# Altium footprint library MicroUSB.PcbLib: 1 footprints
Each footprint in its own frame and in the unit in brackets; x right, y up, seen from the top. Pads: shape width x height; smd on the part's side, far side on the other; paste and mask are expansions set on the pad; w line width, h text height; cw(c..) or ccw(c..) is an arc to the next point about the centre after c.
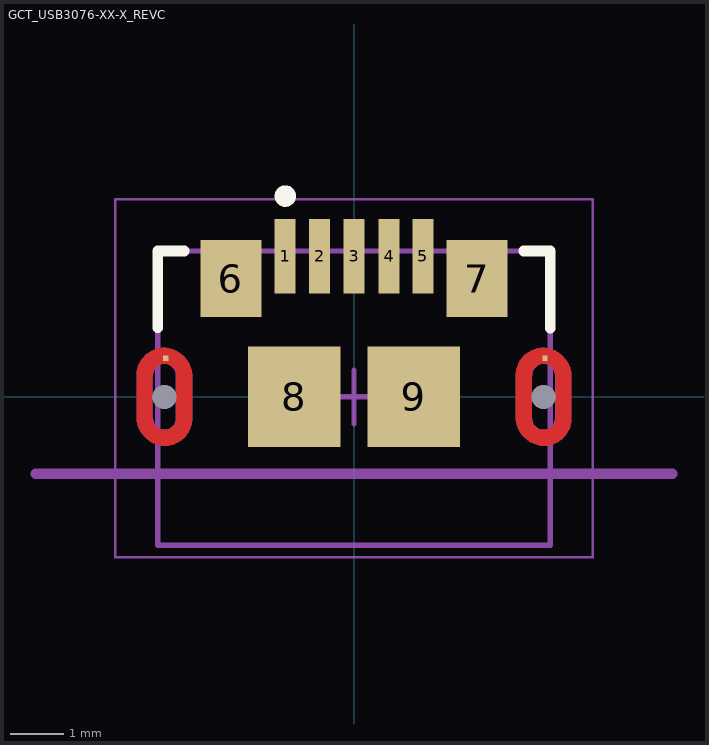
[diagram p0: the footprint, top view; thin cyan lines are the x and y axes]

## GCT_USB3076-XX-X_REVC [mm]
pads (13):
  rect 0.4x1.4 smd: 1(-1.3,2.65) 2(-0.65,2.65) 3(0,2.65) 4(0.66,2.65) 5(1.3,2.65)
  rect 0.1x0.1 smd paste-1 mask+0: 6(-3.549,0.73) 7(3.601,0.73)
  rect 1.15x1.45 smd: 6(-2.32,2.23) 7(2.32,2.23)
  rect 1.75x1.9 smd: 8(-1.125,0) 9(1.125,0)
  round 0.45 hole 0.45 square unplated: ""(-3.575,0) ""(3.575,0)
Top Layer:
  region: 4.1,-0.4 4.099,-0.427 4.097,-0.455 4.094,-0.482 4.089,-0.509 4.082,-0.536 4.074,-0.562 4.065,-0.588 4.055,-0.614 4.043,-0.638 4.03,-0.663 4.015,-0.686 4,-0.709 3.983,-0.73 3.965,-0.751 3.946,-0.771 3.926,-0.79 3.905,-0.808 3.884,-0.825 3.861,-0.84 3.838,-0.855 3.813,-0.868 3.789,-0.88 3.763,-0.89 3.737,-0.899 3.711,-0.907 3.684,-0.914 3.657,-0.919 3.63,-0.922 3.602,-0.924 3.575,-0.925 3.542,-0.923 3.514,-0.919 3.486,-0.914 3.458,-0.907 3.43,-0.899 3.403,-0.889 3.376,-0.878 3.35,-0.866 3.325,-0.852 3.3,-0.837 3.276,-0.82 3.254,-0.803 3.232,-0.784 3.211,-0.764 3.191,-0.743 3.172,-0.721 3.155,-0.699 3.138,-0.675 3.123,-0.65 3.109,-0.625 3.097,-0.599 3.086,-0.572 3.076,-0.545 3.068,-0.517 3.061,-0.489 3.056,-0.461 3.052,-0.433 3.05,-0.404 3.049,-0.375 3.05,-0.35 3.05,0 3.35,0 3.35,-0.4 3.35,-0.412 3.351,-0.424 3.353,-0.435 3.355,-0.447 3.358,-0.458 3.361,-0.47 3.365,-0.481 3.369,-0.492 3.375,-0.502 3.38,-0.513 3.386,-0.523 3.393,-0.532 3.4,-0.542 3.408,-0.551 3.416,-0.559 3.424,-0.567 3.433,-0.575 3.443,-0.582 3.452,-0.589 3.463,-0.595 3.473,-0.6 3.483,-0.606 3.494,-0.61 3.505,-0.614 3.517,-0.617 3.528,-0.62 3.54,-0.622 3.551,-0.624 3.563,-0.625 3.575,-0.625 3.587,-0.625 3.599,-0.624 3.61,-0.622 3.622,-0.62 3.633,-0.617 3.645,-0.614 3.656,-0.61 3.667,-0.606 3.677,-0.6 3.688,-0.595 3.698,-0.589 3.707,-0.582 3.717,-0.575 3.726,-0.567 3.734,-0.559 3.742,-0.551 3.75,-0.542 3.757,-0.532 3.764,-0.523 3.77,-0.513 3.775,-0.502 3.781,-0.492 3.785,-0.481 3.789,-0.47 3.792,-0.458 3.795,-0.447 3.797,-0.435 3.799,-0.424 3.8,-0.412 3.8,-0.4 3.8,0 4.1,0
  region: 3.608,0.923 3.636,0.919 3.664,0.914 3.692,0.907 3.72,0.899 3.747,0.889 3.774,0.878 3.8,0.866 3.825,0.852 3.85,0.837 3.874,0.82 3.896,0.803 3.918,0.784 3.939,0.764 3.959,0.743 3.978,0.721 3.995,0.699 4.012,0.675 4.027,0.65 4.041,0.625 4.053,0.599 4.064,0.572 4.074,0.545 4.082,0.517 4.089,0.489 4.094,0.461 4.098,0.433 4.1,0.404 4.101,0.375 4.1,0.35 4.1,0 3.8,0 3.8,0.4 3.8,0.412 3.799,0.424 3.797,0.435 3.795,0.447 3.792,0.458 3.789,0.47 3.785,0.481 3.781,0.492 3.775,0.502 3.77,0.513 3.764,0.523 3.757,0.532 3.75,0.542 3.742,0.551 3.734,0.559 3.726,0.567 3.717,0.575 3.707,0.582 3.698,0.589 3.688,0.595 3.677,0.6 3.667,0.606 3.656,0.61 3.645,0.614 3.633,0.617 3.622,0.62 3.61,0.622 3.599,0.624 3.587,0.625 3.575,0.625 3.563,0.625 3.551,0.624 3.54,0.622 3.528,0.62 3.517,0.617 3.505,0.614 3.494,0.61 3.483,0.606 3.473,0.6 3.463,0.595 3.452,0.589 3.443,0.582 3.433,0.575 3.424,0.567 3.416,0.559 3.408,0.551 3.4,0.542 3.393,0.532 3.386,0.523 3.38,0.513 3.375,0.502 3.369,0.492 3.365,0.481 3.361,0.47 3.358,0.458 3.355,0.447 3.353,0.435 3.351,0.424 3.35,0.412 3.35,0.4 3.35,0 3.05,0 3.05,0.4 3.051,0.427 3.053,0.455 3.056,0.482 3.061,0.509 3.068,0.536 3.076,0.562 3.085,0.588 3.095,0.614 3.107,0.638 3.12,0.663 3.135,0.686 3.15,0.709 3.167,0.73 3.185,0.751 3.204,0.771 3.224,0.79 3.245,0.808 3.266,0.825 3.289,0.84 3.313,0.855 3.337,0.868 3.361,0.88 3.387,0.89 3.413,0.899 3.439,0.907 3.466,0.914 3.493,0.919 3.52,0.922 3.548,0.924 3.575,0.925
  region: -3.05,-0.4 -3.051,-0.427 -3.053,-0.455 -3.056,-0.482 -3.061,-0.509 -3.068,-0.536 -3.076,-0.562 -3.085,-0.588 -3.095,-0.614 -3.107,-0.638 -3.12,-0.663 -3.135,-0.686 -3.15,-0.709 -3.167,-0.73 -3.185,-0.751 -3.204,-0.771 -3.224,-0.79 -3.245,-0.808 -3.266,-0.825 -3.289,-0.84 -3.313,-0.855 -3.337,-0.868 -3.361,-0.88 -3.387,-0.89 -3.413,-0.899 -3.439,-0.907 -3.466,-0.914 -3.493,-0.919 -3.52,-0.922 -3.548,-0.924 -3.575,-0.925 -3.608,-0.923 -3.636,-0.919 -3.664,-0.914 -3.692,-0.907 -3.72,-0.899 -3.747,-0.889 -3.774,-0.878 -3.8,-0.866 -3.825,-0.852 -3.85,-0.837 -3.874,-0.82 -3.896,-0.803 -3.918,-0.784 -3.939,-0.764 -3.959,-0.743 -3.978,-0.721 -3.995,-0.699 -4.012,-0.675 -4.027,-0.65 -4.041,-0.625 -4.053,-0.599 -4.064,-0.572 -4.074,-0.545 -4.082,-0.517 -4.089,-0.489 -4.094,-0.461 -4.098,-0.433 -4.1,-0.404 -4.101,-0.375 -4.1,-0.35 -4.1,0 -3.8,0 -3.8,-0.4 -3.8,-0.412 -3.799,-0.424 -3.797,-0.435 -3.795,-0.447 -3.792,-0.458 -3.789,-0.47 -3.785,-0.481 -3.781,-0.492 -3.775,-0.502 -3.77,-0.513 -3.764,-0.523 -3.757,-0.532 -3.75,-0.542 -3.742,-0.551 -3.734,-0.559 -3.726,-0.567 -3.717,-0.575 -3.707,-0.582 -3.698,-0.589 -3.688,-0.595 -3.677,-0.6 -3.667,-0.606 -3.656,-0.61 -3.645,-0.614 -3.633,-0.617 -3.622,-0.62 -3.61,-0.622 -3.599,-0.624 -3.587,-0.625 -3.575,-0.625 -3.563,-0.625 -3.551,-0.624 -3.54,-0.622 -3.528,-0.62 -3.517,-0.617 -3.505,-0.614 -3.494,-0.61 -3.483,-0.606 -3.473,-0.6 -3.463,-0.595 -3.452,-0.589 -3.443,-0.582 -3.433,-0.575 -3.424,-0.567 -3.416,-0.559 -3.408,-0.551 -3.4,-0.542 -3.393,-0.532 -3.386,-0.523 -3.38,-0.513 -3.375,-0.502 -3.369,-0.492 -3.365,-0.481 -3.361,-0.47 -3.358,-0.458 -3.355,-0.447 -3.353,-0.435 -3.351,-0.424 -3.35,-0.412 -3.35,-0.4 -3.35,0 -3.05,0
  region: -3.542,0.923 -3.514,0.919 -3.486,0.914 -3.458,0.907 -3.43,0.899 -3.403,0.889 -3.376,0.878 -3.35,0.866 -3.325,0.852 -3.3,0.837 -3.276,0.82 -3.254,0.803 -3.232,0.784 -3.211,0.764 -3.191,0.743 -3.172,0.721 -3.155,0.699 -3.138,0.675 -3.123,0.65 -3.109,0.625 -3.097,0.599 -3.086,0.572 -3.076,0.545 -3.068,0.517 -3.061,0.489 -3.056,0.461 -3.052,0.433 -3.05,0.404 -3.049,0.375 -3.05,0.35 -3.05,0 -3.35,0 -3.35,0.4 -3.35,0.412 -3.351,0.424 -3.353,0.435 -3.355,0.447 -3.358,0.458 -3.361,0.47 -3.365,0.481 -3.369,0.492 -3.375,0.502 -3.38,0.513 -3.386,0.523 -3.393,0.532 -3.4,0.542 -3.408,0.551 -3.416,0.559 -3.424,0.567 -3.433,0.575 -3.443,0.582 -3.452,0.589 -3.463,0.595 -3.473,0.6 -3.483,0.606 -3.494,0.61 -3.505,0.614 -3.517,0.617 -3.528,0.62 -3.54,0.622 -3.551,0.624 -3.563,0.625 -3.575,0.625 -3.587,0.625 -3.599,0.624 -3.61,0.622 -3.622,0.62 -3.633,0.617 -3.645,0.614 -3.656,0.61 -3.667,0.606 -3.677,0.6 -3.688,0.595 -3.698,0.589 -3.707,0.582 -3.717,0.575 -3.726,0.567 -3.734,0.559 -3.742,0.551 -3.75,0.542 -3.757,0.532 -3.764,0.523 -3.77,0.513 -3.775,0.502 -3.781,0.492 -3.785,0.481 -3.789,0.47 -3.792,0.458 -3.795,0.447 -3.797,0.435 -3.799,0.424 -3.8,0.412 -3.8,0.4 -3.8,0 -4.1,0 -4.1,0.4 -4.099,0.427 -4.097,0.455 -4.094,0.482 -4.089,0.509 -4.082,0.536 -4.074,0.562 -4.065,0.588 -4.055,0.614 -4.043,0.638 -4.03,0.663 -4.015,0.686 -4,0.709 -3.983,0.73 -3.965,0.751 -3.946,0.771 -3.926,0.79 -3.905,0.808 -3.884,0.825 -3.861,0.84 -3.838,0.855 -3.813,0.868 -3.789,0.88 -3.763,0.89 -3.737,0.899 -3.711,0.907 -3.684,0.914 -3.657,0.919 -3.63,0.922 -3.602,0.924 -3.575,0.925
Bottom Layer:
  region: 4.1,-0.4 4.099,-0.427 4.097,-0.455 4.094,-0.482 4.089,-0.509 4.082,-0.536 4.074,-0.562 4.065,-0.588 4.055,-0.614 4.043,-0.638 4.03,-0.663 4.015,-0.686 4,-0.709 3.983,-0.73 3.965,-0.751 3.946,-0.771 3.926,-0.79 3.905,-0.808 3.884,-0.825 3.861,-0.84 3.838,-0.855 3.813,-0.868 3.789,-0.88 3.763,-0.89 3.737,-0.899 3.711,-0.907 3.684,-0.914 3.657,-0.919 3.63,-0.922 3.602,-0.924 3.575,-0.925 3.542,-0.923 3.514,-0.919 3.486,-0.914 3.458,-0.907 3.43,-0.899 3.403,-0.889 3.376,-0.878 3.35,-0.866 3.325,-0.852 3.3,-0.837 3.276,-0.82 3.254,-0.803 3.232,-0.784 3.211,-0.764 3.191,-0.743 3.172,-0.721 3.155,-0.699 3.138,-0.675 3.123,-0.65 3.109,-0.625 3.097,-0.599 3.086,-0.572 3.076,-0.545 3.068,-0.517 3.061,-0.489 3.056,-0.461 3.052,-0.433 3.05,-0.404 3.049,-0.375 3.05,-0.35 3.05,0 3.35,0 3.35,-0.4 3.35,-0.412 3.351,-0.424 3.353,-0.435 3.355,-0.447 3.358,-0.458 3.361,-0.47 3.365,-0.481 3.369,-0.492 3.375,-0.502 3.38,-0.513 3.386,-0.523 3.393,-0.532 3.4,-0.542 3.408,-0.551 3.416,-0.559 3.424,-0.567 3.433,-0.575 3.443,-0.582 3.452,-0.589 3.463,-0.595 3.473,-0.6 3.483,-0.606 3.494,-0.61 3.505,-0.614 3.517,-0.617 3.528,-0.62 3.54,-0.622 3.551,-0.624 3.563,-0.625 3.575,-0.625 3.587,-0.625 3.599,-0.624 3.61,-0.622 3.622,-0.62 3.633,-0.617 3.645,-0.614 3.656,-0.61 3.667,-0.606 3.677,-0.6 3.688,-0.595 3.698,-0.589 3.707,-0.582 3.717,-0.575 3.726,-0.567 3.734,-0.559 3.742,-0.551 3.75,-0.542 3.757,-0.532 3.764,-0.523 3.77,-0.513 3.775,-0.502 3.781,-0.492 3.785,-0.481 3.789,-0.47 3.792,-0.458 3.795,-0.447 3.797,-0.435 3.799,-0.424 3.8,-0.412 3.8,-0.4 3.8,0 4.1,0
  region: 3.608,0.923 3.636,0.919 3.664,0.914 3.692,0.907 3.72,0.899 3.747,0.889 3.774,0.878 3.8,0.866 3.825,0.852 3.85,0.837 3.874,0.82 3.896,0.803 3.918,0.784 3.939,0.764 3.959,0.743 3.978,0.721 3.995,0.699 4.012,0.675 4.027,0.65 4.041,0.625 4.053,0.599 4.064,0.572 4.074,0.545 4.082,0.517 4.089,0.489 4.094,0.461 4.098,0.433 4.1,0.404 4.101,0.375 4.1,0.35 4.1,0 3.8,0 3.8,0.4 3.8,0.412 3.799,0.424 3.797,0.435 3.795,0.447 3.792,0.458 3.789,0.47 3.785,0.481 3.781,0.492 3.775,0.502 3.77,0.513 3.764,0.523 3.757,0.532 3.75,0.542 3.742,0.551 3.734,0.559 3.726,0.567 3.717,0.575 3.707,0.582 3.698,0.589 3.688,0.595 3.677,0.6 3.667,0.606 3.656,0.61 3.645,0.614 3.633,0.617 3.622,0.62 3.61,0.622 3.599,0.624 3.587,0.625 3.575,0.625 3.563,0.625 3.551,0.624 3.54,0.622 3.528,0.62 3.517,0.617 3.505,0.614 3.494,0.61 3.483,0.606 3.473,0.6 3.463,0.595 3.452,0.589 3.443,0.582 3.433,0.575 3.424,0.567 3.416,0.559 3.408,0.551 3.4,0.542 3.393,0.532 3.386,0.523 3.38,0.513 3.375,0.502 3.369,0.492 3.365,0.481 3.361,0.47 3.358,0.458 3.355,0.447 3.353,0.435 3.351,0.424 3.35,0.412 3.35,0.4 3.35,0 3.05,0 3.05,0.4 3.051,0.427 3.053,0.455 3.056,0.482 3.061,0.509 3.068,0.536 3.076,0.562 3.085,0.588 3.095,0.614 3.107,0.638 3.12,0.663 3.135,0.686 3.15,0.709 3.167,0.73 3.185,0.751 3.204,0.771 3.224,0.79 3.245,0.808 3.266,0.825 3.289,0.84 3.313,0.855 3.337,0.868 3.361,0.88 3.387,0.89 3.413,0.899 3.439,0.907 3.466,0.914 3.493,0.919 3.52,0.922 3.548,0.924 3.575,0.925
  region: -3.05,-0.4 -3.051,-0.427 -3.053,-0.455 -3.056,-0.482 -3.061,-0.509 -3.068,-0.536 -3.076,-0.562 -3.085,-0.588 -3.095,-0.614 -3.107,-0.638 -3.12,-0.663 -3.135,-0.686 -3.15,-0.709 -3.167,-0.73 -3.185,-0.751 -3.204,-0.771 -3.224,-0.79 -3.245,-0.808 -3.266,-0.825 -3.289,-0.84 -3.313,-0.855 -3.337,-0.868 -3.361,-0.88 -3.387,-0.89 -3.413,-0.899 -3.439,-0.907 -3.466,-0.914 -3.493,-0.919 -3.52,-0.922 -3.548,-0.924 -3.575,-0.925 -3.608,-0.923 -3.636,-0.919 -3.664,-0.914 -3.692,-0.907 -3.72,-0.899 -3.747,-0.889 -3.774,-0.878 -3.8,-0.866 -3.825,-0.852 -3.85,-0.837 -3.874,-0.82 -3.896,-0.803 -3.918,-0.784 -3.939,-0.764 -3.959,-0.743 -3.978,-0.721 -3.995,-0.699 -4.012,-0.675 -4.027,-0.65 -4.041,-0.625 -4.053,-0.599 -4.064,-0.572 -4.074,-0.545 -4.082,-0.517 -4.089,-0.489 -4.094,-0.461 -4.098,-0.433 -4.1,-0.404 -4.101,-0.375 -4.1,-0.35 -4.1,0 -3.8,0 -3.8,-0.4 -3.8,-0.412 -3.799,-0.424 -3.797,-0.435 -3.795,-0.447 -3.792,-0.458 -3.789,-0.47 -3.785,-0.481 -3.781,-0.492 -3.775,-0.502 -3.77,-0.513 -3.764,-0.523 -3.757,-0.532 -3.75,-0.542 -3.742,-0.551 -3.734,-0.559 -3.726,-0.567 -3.717,-0.575 -3.707,-0.582 -3.698,-0.589 -3.688,-0.595 -3.677,-0.6 -3.667,-0.606 -3.656,-0.61 -3.645,-0.614 -3.633,-0.617 -3.622,-0.62 -3.61,-0.622 -3.599,-0.624 -3.587,-0.625 -3.575,-0.625 -3.563,-0.625 -3.551,-0.624 -3.54,-0.622 -3.528,-0.62 -3.517,-0.617 -3.505,-0.614 -3.494,-0.61 -3.483,-0.606 -3.473,-0.6 -3.463,-0.595 -3.452,-0.589 -3.443,-0.582 -3.433,-0.575 -3.424,-0.567 -3.416,-0.559 -3.408,-0.551 -3.4,-0.542 -3.393,-0.532 -3.386,-0.523 -3.38,-0.513 -3.375,-0.502 -3.369,-0.492 -3.365,-0.481 -3.361,-0.47 -3.358,-0.458 -3.355,-0.447 -3.353,-0.435 -3.351,-0.424 -3.35,-0.412 -3.35,-0.4 -3.35,0 -3.05,0
  region: -3.542,0.923 -3.514,0.919 -3.486,0.914 -3.458,0.907 -3.43,0.899 -3.403,0.889 -3.376,0.878 -3.35,0.866 -3.325,0.852 -3.3,0.837 -3.276,0.82 -3.254,0.803 -3.232,0.784 -3.211,0.764 -3.191,0.743 -3.172,0.721 -3.155,0.699 -3.138,0.675 -3.123,0.65 -3.109,0.625 -3.097,0.599 -3.086,0.572 -3.076,0.545 -3.068,0.517 -3.061,0.489 -3.056,0.461 -3.052,0.433 -3.05,0.404 -3.049,0.375 -3.05,0.35 -3.05,0 -3.35,0 -3.35,0.4 -3.35,0.412 -3.351,0.424 -3.353,0.435 -3.355,0.447 -3.358,0.458 -3.361,0.47 -3.365,0.481 -3.369,0.492 -3.375,0.502 -3.38,0.513 -3.386,0.523 -3.393,0.532 -3.4,0.542 -3.408,0.551 -3.416,0.559 -3.424,0.567 -3.433,0.575 -3.443,0.582 -3.452,0.589 -3.463,0.595 -3.473,0.6 -3.483,0.606 -3.494,0.61 -3.505,0.614 -3.517,0.617 -3.528,0.62 -3.54,0.622 -3.551,0.624 -3.563,0.625 -3.575,0.625 -3.587,0.625 -3.599,0.624 -3.61,0.622 -3.622,0.62 -3.633,0.617 -3.645,0.614 -3.656,0.61 -3.667,0.606 -3.677,0.6 -3.688,0.595 -3.698,0.589 -3.707,0.582 -3.717,0.575 -3.726,0.567 -3.734,0.559 -3.742,0.551 -3.75,0.542 -3.757,0.532 -3.764,0.523 -3.77,0.513 -3.775,0.502 -3.781,0.492 -3.785,0.481 -3.789,0.47 -3.792,0.458 -3.795,0.447 -3.797,0.435 -3.799,0.424 -3.8,0.412 -3.8,0.4 -3.8,0 -4.1,0 -4.1,0.4 -4.099,0.427 -4.097,0.455 -4.094,0.482 -4.089,0.509 -4.082,0.536 -4.074,0.562 -4.065,0.588 -4.055,0.614 -4.043,0.638 -4.03,0.663 -4.015,0.686 -4,0.709 -3.983,0.73 -3.965,0.751 -3.946,0.771 -3.926,0.79 -3.905,0.808 -3.884,0.825 -3.861,0.84 -3.838,0.855 -3.813,0.868 -3.789,0.88 -3.763,0.89 -3.737,0.899 -3.711,0.907 -3.684,0.914 -3.657,0.919 -3.63,0.922 -3.602,0.924 -3.575,0.925
Top Overlay:
  circle w0.2: c-1.295,3.785 r0.102
  lines w0.2: -3.7,1.305 -3.7,2.75 -3.2,2.75 ; 3.2,2.75 3.7,2.75 3.7,1.295
Top Paste:
  drawing of 8 lines, arcs and shapes, not listed
Bottom Paste:
  drawing of 8 lines, arcs and shapes, not listed
Top Solder:
  region: 4.301,-1.152 2.856,-1.152 2.856,1.15 4.301,1.15
  region: -2.849,-1.151 -4.304,-1.151 -4.304,1.15 -2.849,1.15
Bottom Solder:
  region: 4.301,-1.151 2.854,-1.151 2.854,1.15 4.301,1.15
  region: -2.849,-1.152 -4.307,-1.152 -4.307,1.15 -2.849,1.15
Mechanical 1:
  lines w0: -3.35,0.402 ccw(c-3.574,0.402) -3.574,0.626 ccw(c-3.575,0.401) -3.8,0.401 -3.8,-0.4 ccw(c-3.575,-0.4) -3.575,-0.625 ccw(c-3.575,-0.4) -3.35,-0.4 -3.35,0.402 ; 3.8,0.402 ccw(c3.575,0.402) 3.575,0.626 ccw(c3.575,0.401) 3.35,0.401 3.35,-0.4 ccw(c3.575,-0.4) 3.575,-0.625 ccw(c3.575,-0.4) 3.8,-0.4 3.8,0.402
Mechanical 13:
  lines w0.1: -3.7,-2.8 -3.7,2.75 3.7,2.75 3.7,-2.8 -3.7,-2.8
  lines w0.2: -6,-1.45 6,-1.45
  text "PCB Edge" at -1.908,-2.57 h0.67
Mechanical 15:
  lines w0.05: -4.5,-3.025 -4.5,3.725 4.5,3.725 4.5,-3.025 -4.5,-3.025
  lines w0.1: -0.508,0 0.508,0 ; 0,-0.508 0,0.508
3D body "USB3076-30-A--3DModel-STEP-56544.STEP": height 2.66, standoff -1, extent -3.7,-2.775 3.7,2.775